# Altium footprint library k7shared.PcbLib: 15 footprints
Each footprint in its own frame and in the unit in brackets; x right, y up, seen from the top. Pads: shape width x height; smd on the part's side, far side on the other; paste and mask are expansions set on the pad; w line width, h text height; cw(c..) or ccw(c..) is an arc to the next point about the centre after c.
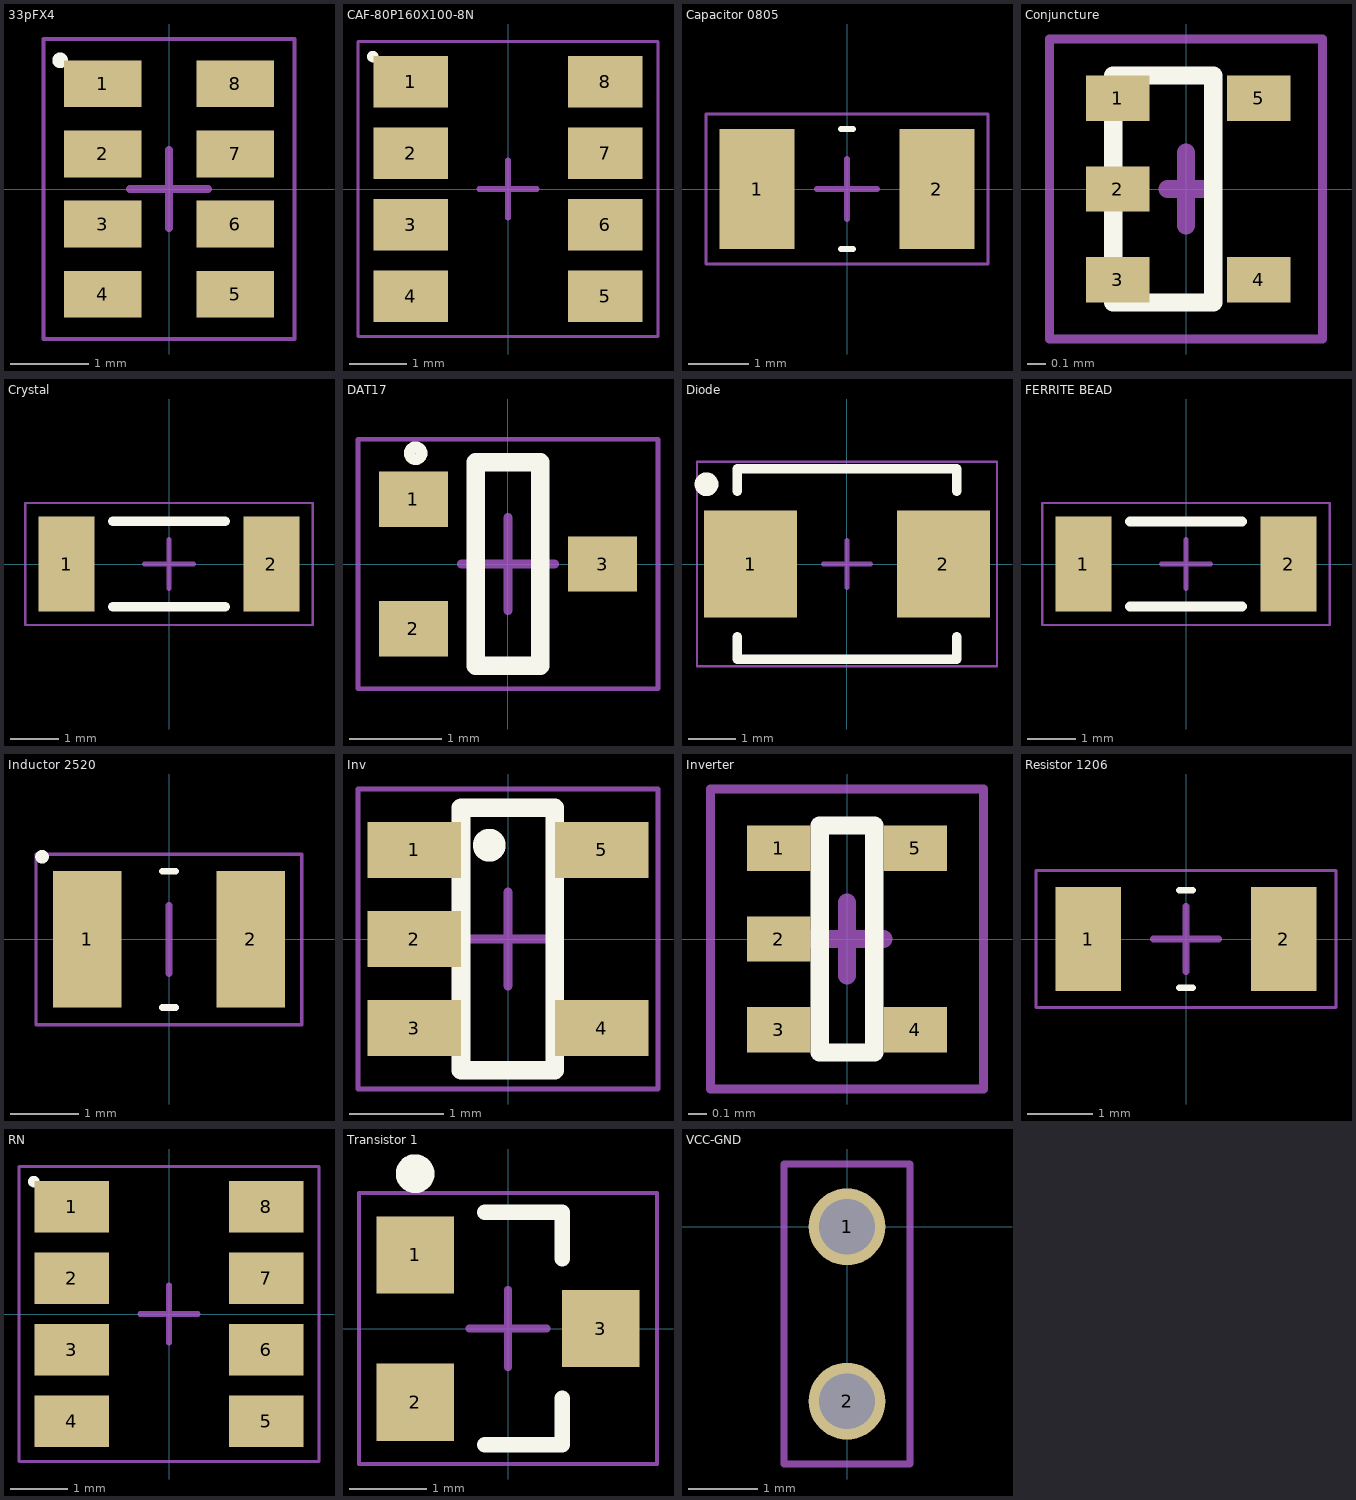
[diagram p0: the footprints below, top view; thin cyan lines are the x and y axes]

## 33pFX4 [mm]
height 1
pads (8):
  rect 1x0.6 smd: 1(-0.85,1.35) 2(-0.85,0.45) 3(-0.85,-0.45) 4(-0.85,-1.35) 5(0.85,-1.35) 6(0.85,-0.45) 7(0.85,0.45) 8(0.85,1.35)
Top Overlay:
  circle w0.1: c-1.397,1.651 r0.05
Mechanical 15:
  lines w0.05: -1.61,-1.925 1.61,-1.925 1.61,1.925 -1.61,1.925 -1.61,-1.925
  lines w0.1: -0.5,0 0.5,0 ; 0,-0.5 0,0.5

## CAF-80P160X100-8N [mm]
height 0.8
pads (8):
  rect 1.3x0.9 smd: 1(-1.7,1.875) 2(-1.7,0.625) 3(-1.7,-0.625) 4(-1.7,-1.875) 5(1.7,-1.875) 6(1.7,-0.625) 7(1.7,0.625) 8(1.7,1.875)
Top Overlay:
  circle w0.1: c-2.362,2.313 r0.05
Mechanical 15:
  lines w0.05: -2.62,-2.575 2.62,-2.575 2.62,2.575 -2.62,2.575 -2.62,-2.575
  lines w0.1: -0.5,0 0.5,0 ; 0,-0.5 0,0.5

## Capacitor 0805 [mm]
height 0.6
pads (2):
  rect 1.25x2 smd: 1(-1.5,0) 2(1.5,0)
Top Overlay:
  lines w0.1: -0.1,-1 0.1,-1 ; -0.1,1 0.1,1
Mechanical 15:
  lines w0.05: -2.35,-1.25 2.35,-1.25 2.35,1.25 -2.35,1.25 -2.35,-1.25
  lines w0.1: -0.5,0 0.5,0 ; 0,-0.5 0,0.5

## Conjuncture [mm]
height 0.5
pads (5):
  rect 0.35x0.25 smd: 1(-0.375,0.5) 2(-0.375,0) 3(-0.375,-0.5) 4(0.4,-0.5) 5(0.4,0.5)
Top Overlay:
  circle w0.05: c-0.1,0.625 r0.025
  lines w0.1: -0.4,-0.625 0.15,-0.625 0.15,0.625 -0.4,0.625 -0.4,-0.625
Mechanical 15:
  lines w0.05: -0.75,-0.825 -0.75,0.825 0.75,0.825 0.75,-0.825 -0.75,-0.825
  lines w0.1: -0.1,0 0.1,0 ; 0,-0.2 0,0.2

## Crystal [mm]
height 1.4
pads (2):
  rect 1.15x1.95 smd: 1(-2.1,0) 2(2.1,0)
Top Overlay:
  lines w0.2: -1.15,-0.875 1.15,-0.875 ; -1.15,0.875 1.15,0.875
Mechanical 13:
  lines w0.1: -2.25,-0.9 -2.25,0.9 ; 2.25,-0.9 2.25,0.9
Mechanical 15:
  lines w0.05: -2.95,-1.25 -2.95,1.25 2.95,1.25 2.95,-1.25 -2.95,-1.25
  lines w0.1: -0.5,0 0.5,0 ; 0,-0.5 0,0.5
3D body: height 1.4, standoff 0, extent -2.25,-0.9 -1.45,0.9
3D body: height 1.4, standoff 0, extent 1.45,-0.9 2.25,0.9

## DAT17 [mm] "SOT223, 3-Leads, Body 2,20x1,90mm (avg), Pitch 1,40mm, IPC Medium Density"
height 0.9
pads (3):
  rect 0.75x0.6 smd: 1(-1.025,0.7) 2(-1.025,-0.7) 3(1.025,0)
Top Overlay:
  circle w0.125: c-1,1.2 r0.065
  lines w0.2: -0.35,-1.1 -0.35,1.1 0.35,1.1 0.35,-1.1 -0.35,-1.1
Mechanical 15:
  lines w0.05: -1.625,-1.35 -1.625,1.35 1.625,1.35 1.625,-1.35 -1.625,-1.35
  lines w0.1: -0.5,0 0.5,0 ; 0,-0.5 0,0.5

## Diode [mm]
height 1.1
pads (2):
  rect 1.95x2.25 smd: 1(-2.025,0) 2(2.025,0)
Top Overlay:
  circle w0.25: c-2.95,1.675 r0.125
  lines w0.2: -2.3,-1.525 -2.3,-2 2.3,-2 2.3,-1.525 ; -2.3,1.525 -2.3,2 2.3,2 2.3,1.525
Mechanical 13:
  lines w0.1: -2.3,-1.975 2.3,-1.975 ; -2.3,1.975 2.3,1.975
Mechanical 15:
  lines w0.05: -3.15,-2.15 -3.15,2.15 3.15,2.15 3.15,-2.15 -3.15,-2.15
  lines w0.1: -0.5,0 0.5,0 ; 0,-0.5 0,0.5

## FERRITE BEAD [mm] "Chip 2-Leads, Body 4,50x1,80mm, IPC Medium Density"
height 1.4
pads (2):
  rect 1.15x1.94 smd: 1(-2.105,0) 2(2.105,0)
Top Overlay:
  lines w0.2: -1.15,-0.87 1.15,-0.87 ; -1.15,0.87 1.15,0.87
Mechanical 13:
  lines w0.1: -2.25,-0.9 -2.25,0.9 ; 2.25,-0.9 2.25,0.9
Mechanical 15:
  lines w0.05: -2.95,-1.25 2.95,-1.25 2.95,1.25 -2.95,1.25 -2.95,-1.25
  lines w0.1: -0.5,0 0.5,0 ; 0,-0.5 0,0.5
3D body: height 1.4, standoff 0, extent 1.45,-0.9 2.25,0.9
3D body: height 1.4, standoff 0, extent -2.25,-0.9 -1.45,0.9

## Inductor 2520 [mm]
height 0.6
pads (2):
  rect 1x2 smd: 1(-1.2,0) 2(1.2,0)
Top Overlay:
  circle w0.1: c-1.862,1.212 r0.05
  lines w0.1: -0.1,-1 0.1,-1 ; -0.1,1 0.1,1
Mechanical 15:
  lines w0.05: -1.95,-1.25 1.95,-1.25 1.95,1.25 -1.95,1.25 -1.95,-1.25
  lines w0.1: 0,-0.5 0,0.5

## Inv [mm]
height 1.5
pads (5):
  rect 1x0.6 smd: 1(-1,0.95) 2(-1,0) 3(-1,-0.95) 4(1,-0.95) 5(1,0.95)
Top Overlay:
  circle w0.25: c-0.2,1 r0.05
  lines w0.2: -0.5,-1.4 0.5,-1.4 0.5,1.4 -0.5,1.4 -0.5,-1.4
Mechanical 15:
  lines w0.05: -1.6,-1.6 -1.6,1.6 1.6,1.6 1.6,-1.6 -1.6,-1.6
  lines w0.1: -0.5,0 0.5,0 ; 0,-0.5 0,0.5

## Inverter [mm]
height 0.5
pads (5):
  rect 0.35x0.25 smd: 1(-0.375,0.5) 2(-0.375,0) 3(-0.375,-0.5) 4(0.375,-0.5) 5(0.375,0.5)
Top Overlay:
  circle w0.05: c-0.1,0.625 r0.025
  lines w0.1: -0.15,-0.625 0.15,-0.625 0.15,0.625 -0.15,0.625 -0.15,-0.625
Mechanical 15:
  lines w0.05: -0.75,-0.825 0.75,-0.825 0.75,0.825 -0.75,0.825 -0.75,-0.825
  lines w0.1: -0.2,0 0.2,0 ; 0,-0.2 0,0.2

## Resistor 1206 [mm]
height 0.6
pads (2):
  rect 1x1.6 smd: 1(-1.5,0) 2(1.5,0)
Top Overlay:
  lines w0.1: -0.1,-0.75 0.1,-0.75 ; -0.1,0.75 0.1,0.75
Mechanical 15:
  lines w0.05: -2.3,-1.05 -2.3,1.05 2.3,1.05 2.3,-1.05 -2.3,-1.05
  lines w0.1: -0.5,0 0.5,0 ; 0,-0.5 0,0.5

## RN [mm] "Chip Array, Flat, 8-Leads, Pitch 1,25mm,  Body 4,65x3,70mm,  IPC Medium Density"
height 0.8
pads (8):
  rect 1.3x0.9 smd: 1(-1.7,1.875) 2(-1.7,0.625) 3(-1.7,-0.625) 4(-1.7,-1.875) 5(1.7,-1.875) 6(1.7,-0.625) 7(1.7,0.625) 8(1.7,1.875)
Top Overlay:
  circle w0.1: c-2.362,2.313 r0.05
Mechanical 15:
  lines w0.05: -2.62,-2.575 2.62,-2.575 2.62,2.575 -2.62,2.575 -2.62,-2.575
  lines w0.1: -0.5,0 0.5,0 ; 0,-0.5 0,0.5

## Transistor 1 [mm]
height 1.1
pads (3):
  rect 1x1 smd: 1(-1.2,0.95) 2(-1.2,-0.95) 3(1.2,0)
Top Overlay:
  circle w0.25: c-1.2,2 r0.125
  lines w0.2: -0.3,-1.5 0.7,-1.5 0.7,-0.9 ; -0.3,1.5 0.7,1.5 0.7,0.9
Mechanical 15:
  lines w0.05: -1.925,-1.75 1.925,-1.75 1.925,1.75 -1.925,1.75 -1.925,-1.75
  lines w0.1: -0.5,0 0.5,0 ; 0,-0.5 0,0.5

## VCC-GND [mm]
pads (2):
  round 1.1 hole 0.8: 1(0,0) 2(0,-2.5)
Mechanical 15:
  lines w0.1: -0.9,-3.4 -0.9,0.9 0.9,0.9 0.9,-3.4 -0.9,-3.4